# Altium integrated library Gennum Video Switch.IntLib: 7 symbols
Pins are listed as number, name and electrical type; pins without a type are passive.

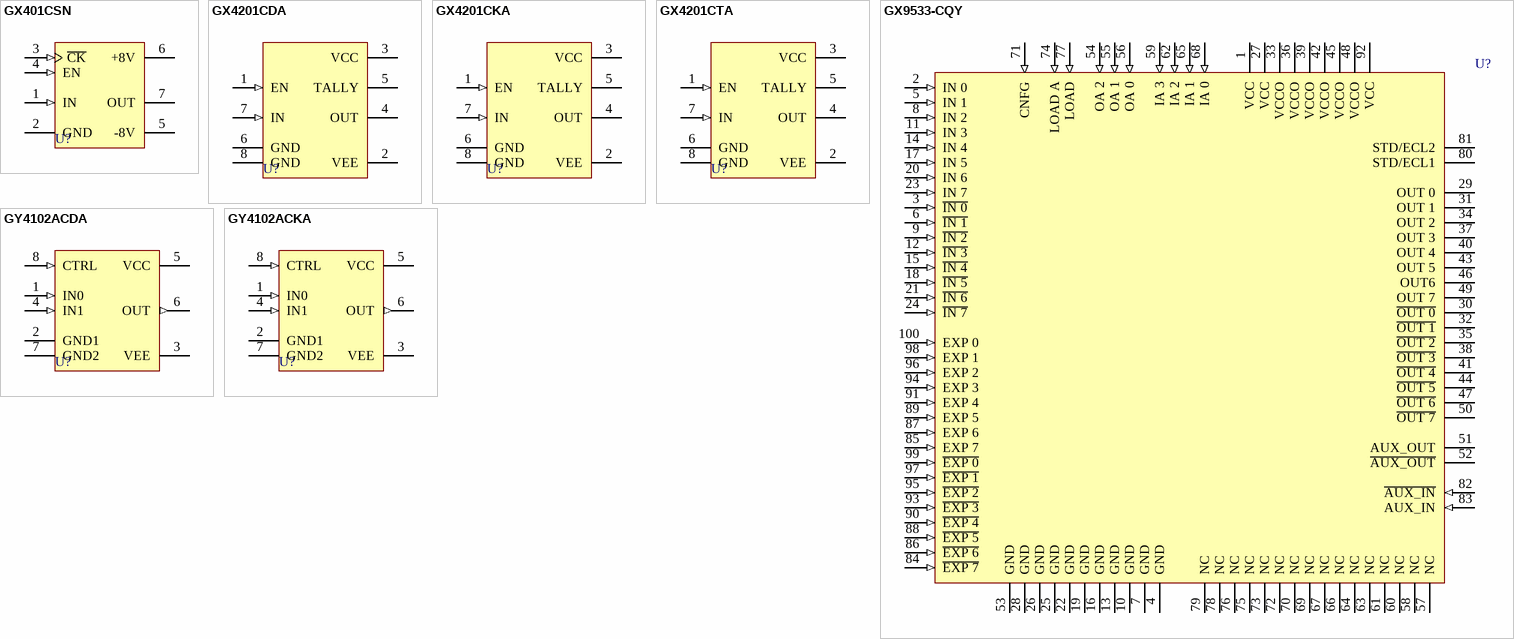
[diagram p0: symbols GX401CSN to GY4102ACKA]

## GX401CSN
designator U?
Monolithic 1x1 Video Crosspoint Switch; Published: 8-Jun-2000; LatestRevisionDate: 17-Jul-2002; LatestRevisionNote: Re-released for DXP Platform.; PackageVersion: 1993; PackageReference: SIP7; Publisher: Altium Limited; PackageDescription: SIP; 7 Leads; Body 19.1 x 3.3 mm (LxW typ); Pitch 2.54 mm; ComponentLink1Description: Manufacturer Link; ComponentLink1URL: http://www.gennum.com/index.html
footprint SIP7 (SIP; 7 Leads; Body 19.1 x 3.3 mm (LxW typ); Pitch 2.54 mm)
pins: 1 IN (in), 2 GND (power), 3 ~{CK} (in), 4 EN (in), 5 -8V (power), 6 +8V (power), 7 OUT (hiz)

## GX4201CDA
designator U?
Wideband, Monolithic 1x1 Video Crosspoint Switch; Published: 8-Jun-2000; LatestRevisionDate: 17-Jul-2002; LatestRevisionNote: Re-released for DXP Platform.; DatasheetVersion: Jan-1993; PackageVersion: Nov-1999; PackageReference: PDIP8; Publisher: Altium Limited; PackageDescription: DIP; 8 Leads; Row Spacing 7.62 mm; Pitch 2.54 mm; ComponentLink1Description: Manufacturer Link; ComponentLink1URL: http://www.gennum.com/index.html; ComponentLink2Description: Datasheet; ComponentLink2URL: http://www.gennum.com/vb/pdffiles/51074DOC.pdf
footprint PDIP8 (DIP; 8 Leads; Row Spacing 7.62 mm; Pitch 2.54 mm)
pins: 1 EN (in), 2 VEE (power), 3 VCC (power), 4 OUT (hiz), 5 TALLY (oc), 6 GND (power), 7 IN (in), 8 GND (power)

## GX4201CKA
designator U?
Wideband, Monolithic 1x1 Video Crosspoint Switch; Published: 8-Jun-2000; LatestRevisionDate: 13-Apr-2006; LatestRevisionNote: IPC-7351 Footprint Added.; DatasheetVersion: Jan-1993; PackageReference: SOIC8; Publisher: Altium Limited; PackageDescription: 8-Pin Small Outline Integrated Circuit 1.27 mm Pitch; Code_JEDEC: MS-012-AA; Code_IPC: SOIC127P600-8; ComponentLink1Description: Manufacturer Link; ComponentLink1URL: http://www.gennum.com/index.html; ComponentLink2Description: Datasheet; ComponentLink2URL: http://www.gennum.com/vb/pdffiles/51074DOC.pdf
footprint SOIC8_N (SOIC, 8-Leads, Body 4.8x3.9mm, Pitch 1.27mm, IPC Medium Density)
footprint SOIC8_L (SOIC, 8-Leads, Body 4.8x3.9mm, Pitch 1.27mm, IPC High Density)
footprint SOIC8_M (SOIC, 8-Leads, Body 4.8x3.9mm, Pitch 1.27mm, IPC Low Density)
3D model SOIC8 (8-Pin Small Outline Integrated Circuit 1.27 mm Pitch)
pins: 1 EN (in), 2 VEE (power), 3 VCC (power), 4 OUT (hiz), 5 TALLY (oc), 6 GND (power), 7 IN (in), 8 GND (power)

## GX4201CTA
designator U?
Wideband, Monolithic 1x1 Video Crosspoint Switch; Published: 8-Jun-2000; LatestRevisionDate: 13-Apr-2006; LatestRevisionNote: IPC-7351 Footprint Added.; DatasheetVersion: Jan-1993; PackageReference: SOIC8T; Publisher: Altium Limited; PackageDescription: 8-Pin Small Outline Integrated Circuit 1.27 mm Pitch; Code_JEDEC: MS-012-AA; Code_IPC: SOIC127P600-8; ComponentLink1Description: Manufacturer Link; ComponentLink1URL: http://www.gennum.com/index.html; ComponentLink2Description: Datasheet; ComponentLink2URL: http://www.gennum.com/vb/pdffiles/51074DOC.pdf
footprint SOIC8T_N (SOIC, 8-Leads, Body 4.8x3.9mm, Pitch 1.27mm, IPC Medium Density)
footprint SOIC8T_L (SOIC, 8-Leads, Body 4.8x3.9mm, Pitch 1.27mm, IPC High Density)
footprint SOIC8T_M (SOIC, 8-Leads, Body 4.8x3.9mm, Pitch 1.27mm, IPC Low Density)
3D model SOIC8 (8-Pin Small Outline Integrated Circuit 1.27 mm Pitch)
pins: 1 EN (in), 2 VEE (power), 3 VCC (power), 4 OUT (hiz), 5 TALLY (oc), 6 GND (power), 7 IN (in), 8 GND (power)

## GX9533-CQY
designator U?
Serial Digital 8x9 Crosspoint; Published: 8-Jun-2000; LatestRevisionDate: 13-Apr-2006; LatestRevisionNote: IPC-7351 Footprint Added.; DatasheetVersion: Aug-1999; PackageReference: MQFP100; Publisher: Altium Limited; PackageDescription: 100-Pin Quad Flat Pack Rectangular 0.65 mm Pitch; ComponentLink1Description: Manufacturer Link; ComponentLink1URL: http://www.gennum.com/index.html; ComponentLink2Description: Datasheet; ComponentLink2URL: http://www.gennum.com/vb/pdffiles/52141DOC.pdf
footprint MQFP100_N (QFP, 100-Leads, Body 20x14mm, Pitch 0.65mm, IPC Medium Density)
footprint MQFP100_L (QFP, 100-Leads, Body 20x14mm, Pitch 0.65mm, IPC High Density)
footprint MQFP100_M (QFP, 100-Leads, Body 20x14mm, Pitch 0.65mm, IPC Low Density)
3D model GX9533-MQFP100 (100-Pin Quad Flat Pack Rectangular 0.65 mm Pitch)
pins: 1 VCC (power), 2 IN 0 (in), 3 ~{IN 0} (in), 4 GND (power), 5 IN 1 (in), 6 ~{IN 1} (in), 7 GND (power), 8 IN 2 (in), 9 ~{IN 2} (in), 10 GND (power), 11 IN 3 (in), 12 ~{IN 3} (in), 13 GND (power), 14 IN 4 (in), 15 ~{IN 4} (in), 16 GND (power), 17 IN 5 (in), 18 ~{IN 5} (in), 19 GND (power), 20 IN 6 (in), 21 ~{IN 6} (in), 22 GND (power), 23 IN 7 (in), 24 ~{IN 7} (in), 25 GND (power), 26 GND (power), 27 VCC (power), 28 GND (power), 29 OUT 0 (oe), 30 ~{OUT 0} (oe), 31 OUT 1 (oe), 32 ~{OUT 1} (oe), 33 VCCO (power), 34 OUT 2 (oe), 35 ~{OUT 2} (oe), 36 VCCO (power), 37 OUT 3 (oe), 38 ~{OUT 3} (oe), 39 VCCO (power), 40 OUT 4 (oe), 41 ~{OUT 4} (oe), 42 VCCO (power), 43 OUT 5 (oe), 44 ~{OUT 5} (oe), 45 VCCO (power), 46 OUT6 (oe), 47 ~{OUT 6} (oe), 48 VCCO (power), 49 OUT 7 (oe), 50 ~{OUT 7} (oe), 51 AUX_OUT (oe), 52 ~{AUX_OUT} (oe), 53 GND (power), 54 OA 2 (in), 55 OA 1 (in), 56 OA 0 (in), 57 NC, 58 NC, 59 IA 3 (in), 60 NC, 61 NC, 62 IA 2 (in), 63 NC, 64 NC, 65 IA 1 (in), 66 NC, 67 NC, 68 IA 0 (in), 69 NC, 70 NC, 71 CNFG (in), 72 NC, 73 NC, 74 LOAD A (in), 75 NC, 76 NC, 77 LOAD (in), 78 NC, 79 NC, 80 STD/ECL1, 81 STD/ECL2, 82 ~{AUX_IN} (in), 83 AUX_IN (in), 84 ~{EXP 7} (in), 85 EXP 7 (in), 86 ~{EXP 6} (in), 87 EXP 6 (in), 88 ~{EXP 5} (in), 89 EXP 5 (in), 90 ~{EXP 4} (in), 91 EXP 4 (in), 92 VCC (power), 93 ~{EXP 3} (in), 94 EXP 3 (in), 95 ~{EXP 2} (in), 96 EXP 2 (in), 97 ~{EXP 1} (in), 98 EXP 1 (in), 99 ~{EXP 0} (in), 100 EXP 0 (in)

## GY4102ACDA
designator U?
Fast Toggling Video Switch; Published: 8-Jun-2000; LatestRevisionDate: 17-Jul-2002; LatestRevisionNote: Re-released for DXP Platform.; DatasheetVersion: Jan-1993; PackageVersion: Nov-1999; PackageReference: PDIP8; Publisher: Altium Limited; PackageDescription: DIP; 8 Leads; Row Spacing 7.62 mm; Pitch 2.54 mm; ComponentLink1Description: Manufacturer Link; ComponentLink1URL: http://www.gennum.com/index.html; ComponentLink2Description: Datasheet; ComponentLink2URL: http://www.gennum.com/vb/pdffiles/52021DOC.pdf
footprint PDIP8 (DIP; 8 Leads; Row Spacing 7.62 mm; Pitch 2.54 mm)
pins: 1 IN0 (in), 2 GND1 (power), 3 VEE (power), 4 IN1 (in), 5 VCC (power), 6 OUT (out), 7 GND2 (power), 8 CTRL (in)

## GY4102ACKA
designator U?
Fast Toggling Video Switch; Published: 8-Jun-2000; LatestRevisionDate: 13-Apr-2006; LatestRevisionNote: IPC-7351 Footprint Added.; DatasheetVersion: Jan-1993; PackageReference: SOIC8; Publisher: Altium Limited; PackageDescription: 8-Pin Small Outline Integrated Circuit 1.27 mm Pitch; Code_JEDEC: MS-012-AA; Code_IPC: SOIC127P600-8; ComponentLink1Description: Manufacturer Link; ComponentLink1URL: http://www.gennum.com/index.html; ComponentLink2Description: Datasheet; ComponentLink2URL: http://www.gennum.com/vb/pdffiles/52021DOC.pdf
footprint SOIC8_N (SOIC, 8-Leads, Body 4.8x3.9mm, Pitch 1.27mm, IPC Medium Density)
footprint SOIC8_L (SOIC, 8-Leads, Body 4.8x3.9mm, Pitch 1.27mm, IPC High Density)
footprint SOIC8_M (SOIC, 8-Leads, Body 4.8x3.9mm, Pitch 1.27mm, IPC Low Density)
3D model SOIC8 (8-Pin Small Outline Integrated Circuit 1.27 mm Pitch)
pins: 1 IN0 (in), 2 GND1 (power), 3 VEE (power), 4 IN1 (in), 5 VCC (power), 6 OUT (out), 7 GND2 (power), 8 CTRL (in)